# Altium schematic symbol library SMA Jack.SchLib: 1 symbol
Pins are listed as number, name and electrical type; pins without a type are passive.

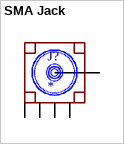
[diagram p0: symbol SMA Jack]

## SMA Jack
designator J?
SMA Jack; Manufacturer: Tyco Electronics; Part No.: 5-1814400-1; Vendor: Digi-Key; Price Est.: $3.03
pins: 1, 2, 3, 4, 5